# Altium footprint library Devel_Airscout_PCB_LibV3.0.PcbLib: 67 footprints (part 3 of 5)
Each footprint in its own frame and in the unit in brackets; x right, y up, seen from the top. Pads: shape width x height; smd on the part's side, far side on the other; paste and mask are expansions set on the pad; w line width, h text height; cw(c..) or ccw(c..) is an arc to the next point about the centre after c.
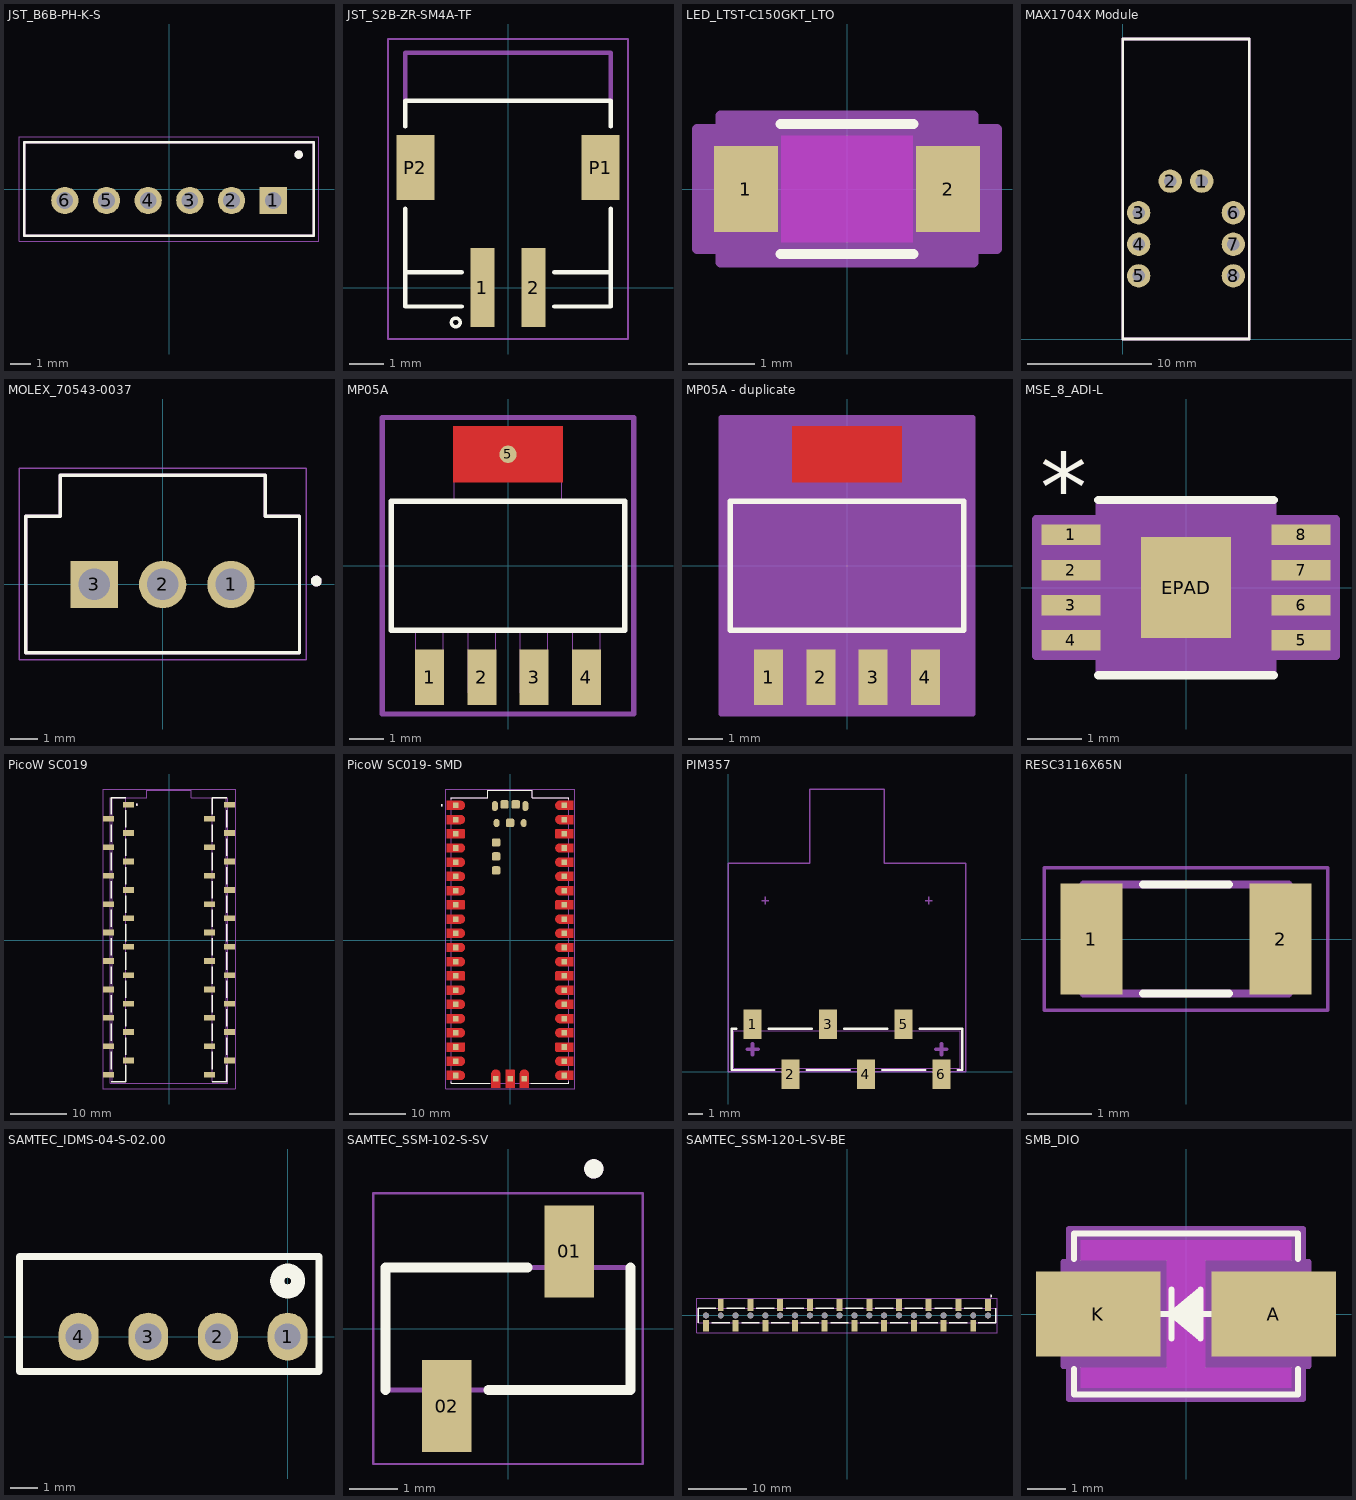
[diagram p2: the footprints below, top view; thin cyan lines are the x and y axes]

## JST_B6B-PH-K-S [mm]
pads (6):
  rect 1.308x1.308 hole 0.8: 1(5,-0.55)
  round 1.308 hole 0.8: 2(3,-0.55) 3(1,-0.55) 4(-1,-0.55) 5(-3,-0.55) 6(-5,-0.55)
Top Overlay:
  circle w0.2: c6.223,1.651 r0.1
  lines w0.127: -6.95,-2.25 -6.95,2.25 6.95,2.25 6.95,-2.25 -6.95,-2.25
Mechanical 13:
  circle w0.2: c6.223,1.651 r0.1
  lines w0.127: -6.95,-2.25 6.95,-2.25 6.95,2.25 -6.95,2.25 -6.95,-2.25
Mechanical 15:
  lines w0.05: -7.2,-2.5 7.2,-2.5 7.2,2.5 -7.2,2.5 -7.2,-2.5
3D body "step_temp.STEP": height 6, standoff -3.4, extent -6.95,-2.25 6.95,2.25

## JST_S2B-ZR-SM4A-TF [mm]
pads (4):
  rect 0.7x2.3 smd: 1(-0.75,0) 2(0.75,0)
  rect 1.1x1.9 smd: P1(2.7,3.5) P2(-2.7,3.5)
Top Overlay:
  circle w0.1: c-1.524,-1.016 r0.127
  lines w0.127: -3,2.3 -3,0.45 ; -3,4.7 -3,5.45 3,5.45 3,4.7 ; -1.35,-0.55 -3,-0.55 -3,0.45 ; -1.35,0.45 -3,0.45 ; 1.35,-0.55 3,-0.55 3,0.45 ; 1.35,0.45 3,0.45 ; 3,2.3 3,0.45
Mechanical 13:
  lines w0.127: -3,5.45 -3,6.85 3,6.85 3,5.45
Mechanical 15:
  lines w0.05: -3.5,-1.5 3.5,-1.5 3.5,7.25 -3.5,7.25 -3.5,-1.5
3D body "step_temp.STEP": height 3.7, standoff 0, extent -2.885,-0.964 3.115,5.536

## LED_LTST-C150GKT_LTO [mil]
pads (2):
  rect 38x51 smd paste+0 mask+0: 1(-60,0) 2(60,0)
Top Layer keep-out:
  region: -39,-31.5 -39,31.5 39,31.5 39,-31.5
Top Overlay:
  lines w6: -39.38,-38.5 39.38,-38.5 ; -39.38,38.5 39.38,38.5
Keep-Out Layer:
  region: -39,-31.5 -39,31.5 39,31.5 39,-31.5
Mechanical 13:
  lines w1: -65,-33.5 65,-33.5 65,33.5 -65,33.5 -65,-33.5 ; -65,-25.5 -65,25.5 -65,-25.5 ; 65,-25.5 65,25.5 65,-25.5
Mechanical 15:
  region: -75,-35.5 -89,-35.5 -89,35.5 -75,35.5 -75,43.5 75,43.5 75,35.5 89,35.5 89,-35.5 75,-35.5 75,-43.5 -75,-43.5
  lines w6: -89,-35.5 -89,35.5 -75,35.5 -75,43.5 75,43.5 75,35.5 89,35.5 89,-35.5 75,-35.5 75,-43.5 -75,-43.5 -75,-35.5 -89,-35.5
3D body "LED_LTST-C150GKT_LTO.step": height 47.09, standoff 0, extent -65,-33.5 65,33.5

## MAX1704X Module [mil] "Breakout Board"
pads (8):
  round 74 hole 40: 1(250,500) 2(150,500) 3(50,400) 4(50,300) 5(50,200) 6(350,400) 7(350,300) 8(350,200)
Top Overlay:
  lines w8: 0,0 0,950 400,950 400,0 0,0
Mechanical 15:
  lines w8: 0,0 0,950 400,950 400,0 0,0

## MOLEX_70543-0037 [mm]
height 11.81
pads (3):
  round 1.755 hole 1.17: 1(2.54,0) 2(0,0)
  rect 1.755x1.755 hole 1.17: 3(-2.54,0)
Top Overlay:
  circle w0.2: c5.708,0.127 r0.1
  lines w0.127: -5.085,-2.54 -5.085,2.54 -3.81,2.54 -3.81,4.06 3.81,4.06 3.81,2.54 5.085,2.54 5.085,-2.54 -5.085,-2.54
Mechanical 13:
  circle w0.2: c5.708,0.127 r0.1
  lines w0.127: -5.085,-2.54 -5.085,2.54 -3.81,2.54 -3.81,4.06 3.81,4.06 3.81,2.54 5.085,2.54 5.085,-2.54 -5.085,-2.54
Mechanical 15:
  lines w0.05: -5.335,-2.79 5.335,-2.79 5.335,4.31 -5.335,4.31 -5.335,-2.79
3D body "705430037--3DModel-STEP-510211.STEP": height 11.81, standoff -3.3, extent -5.08,-2.54 5.08,4.064

## MP05A [mil]
pads (5):
  rect 33x63 smd paste-31.5 mask-31.5: 1(-88.58,-126) 2(-29.53,-126) 3(29.53,-126) 4(88.58,-126)
  round 19.68 smd mask+4: 5(0,125.98)
Top Layer:
  region: 62,94.5 62,157.5 -62,157.5 -62,94.5
  region: 62,94.5 62,157.5 -62,157.5 -62,94.5
Top Overlay:
  lines w6: -132,-73 -132,73 132,73 132,-73 -132,-73
Top Solder:
  region: 66.93,80.5 66.93,171.5 -66.93,171.5 -66.93,80.5
Mechanical 13:
  lines w1: -132,-73 -132,73 132,73 132,-73 -132,-73 ; -104.08,-143.5 -73.08,-143.5 -73.08,-73 -104.08,-73 -104.08,-143.5 ; -61,73 -61,143.5 61,143.5 61,73 -61,73 ; -45.03,-143.5 -14.03,-143.5 -14.03,-73 -45.03,-73 -45.03,-143.5 ; 14.03,-143.5 45.03,-143.5 45.03,-73 14.03,-73 14.03,-143.5 ; 73.08,-143.5 104.08,-143.5 104.08,-73 73.08,-73 73.08,-143.5
Mechanical 15:
  lines w6: -142,-167.5 142,-167.5 142,167.5 -142,167.5 -142,-167.5
3D body "MP05A.step": height 71.1, standoff 0, extent -132.01,-143.5 132.01,143.5

## MP05A - duplicate [mil]
pads (4):
  rect 33x63 smd paste-31.5 mask-31.5: 1(-88.58,-126) 2(-29.53,-126) 3(29.53,-126) 4(88.58,-126)
Top Layer:
  region: 62,94.5 62,157.5 -62,157.5 -62,94.5
Top Overlay:
  lines w6: -132,-73 132,-73 132,73 -132,73 -132,-73
Top Paste:
  region: 62,94.5 62,157.5 -62,157.5 -62,94.5
Top Solder:
  region: 63,80.5 63,171.5 -63,171.5 -63,80.5
Mechanical 13:
  lines w1: -132,-73 132,-73 132,73 -132,73 -132,-73 ; -104.08,-143.5 -104.08,-73 -73.08,-73 -73.08,-143.5 -104.08,-143.5 ; -61,73 61,73 61,143.5 -61,143.5 -61,73 ; -45.03,-143.5 -45.03,-73 -14.03,-73 -14.03,-143.5 -45.03,-143.5 ; 14.03,-143.5 14.03,-73 45.03,-73 45.03,-143.5 14.03,-143.5 ; 73.08,-143.5 73.08,-73 104.08,-73 104.08,-143.5 73.08,-143.5
Mechanical 15:
  region: 142,-167.5 -142,-167.5 -142,167.5 142,167.5
  lines w6: -142,-167.5 -142,167.5 142,167.5 142,-167.5 -142,-167.5
3D body "MP05A.step": height 71.1, standoff 0, extent -132.01,-143.5 132.01,143.5

## MSE_8_ADI-L [mil]
pads (9):
  rect 43x15 smd paste+0 mask+0: 1(-84,38.39) 2(-84,12.8) 3(-84,-12.8) 4(-84,-38.39) 5(84,-38.39) 6(84,-12.8) 7(84,12.8) 8(84,38.39)
  rect 66x74 smd paste+0 mask+0: EPAD(0,0)
Top Overlay:
  lines w6: -64,-64 64,-64 ; -64,64 64,64
  text "*" at -106.5,48.39 h50
Mechanical 13:
  lines w0: -12,59 ccw(c0,59) 12,59
  lines w1: -99.5,-45.89 -59,-45.89 -59,-30.89 -99.5,-30.89 -99.5,-45.89 ; -99.5,-20.3 -59,-20.3 -59,-5.3 -99.5,-5.3 -99.5,-20.3 ; -99.5,5.3 -59,5.3 -59,20.3 -99.5,20.3 -99.5,5.3 ; -99.5,30.89 -59,30.89 -59,45.89 -99.5,45.89 -99.5,30.89 ; -59,-59 -59,59 59,59 59,-59 -59,-59 ; 59,-45.89 99.5,-45.89 99.5,-30.89 59,-30.89 59,-45.89 ; 59,-20.3 99.5,-20.3 99.5,-5.3 59,-5.3 59,-20.3 ; 59,5.3 99.5,5.3 99.5,20.3 59,20.3 59,5.3 ; 59,30.89 99.5,30.89 99.5,45.89 59,45.89 59,30.89
  text "*" at -106.3,47.24 h50
Mechanical 15:
  region: -63,-49.89 -109.5,-49.89 -109.5,49.89 -63,49.89 -63,63 63,63 63,49.89 109.5,49.89 109.5,-49.89 63,-49.89 63,-63 -63,-63
  lines w6: -109.5,-49.89 -63,-49.89 -63,-63 63,-63 63,-49.89 109.5,-49.89 109.5,49.89 63,49.89 63,63 -63,63 -63,49.89 -109.5,49.89 -109.5,-49.89
3D body "MSE_8_ADI.step": height 43.11, standoff -2.01, extent -99.49,-59.02 99.49,59.02

## PicoW SC019 [mm] "For Description look into Schematics"
pads (40):
  rect 2x1.02 smd: 1(-7.256,24.26) 2(-10.812,21.72) 3(-7.256,19.18) 4(-10.812,16.64) 5(-7.256,14.1) 6(-10.812,11.56) 7(-7.256,9.02) 8(-10.812,6.48) 9(-7.256,3.94) 10(-10.812,1.4) 11(-7.256,-1.14) 12(-10.812,-3.68) 13(-7.256,-6.22) 14(-10.812,-8.76) 15(-7.256,-11.3) 16(-10.812,-13.84) 17(-7.256,-16.38) 18(-10.812,-18.92) 19(-7.256,-21.46) 20(-10.812,-24) 21(7.256,-24) 22(10.812,-21.46) 23(7.256,-18.92) 24(10.812,-16.38) 25(7.256,-13.84) 26(10.812,-11.3) 27(7.256,-8.76) 28(10.812,-6.22) 29(7.256,-3.68) 30(10.812,-1.14) 31(7.256,1.4) 32(10.812,3.94) 33(7.256,6.48) 34(10.812,9.02) 35(7.256,11.56) 36(10.812,14.1) 37(7.256,16.64) 38(10.812,19.18) 39(7.256,21.72) 40(10.812,24.26)
Top Overlay:
  circle w0.2: c-5.734,24.26 r0.1
  lines w0.254: -10.304,-25.27 -7.764,-25.27 -7.764,-22.32 ; -10.304,-22.984 -10.304,-19.936 ; -10.304,-17.904 -10.304,-14.856 ; -10.304,-12.824 -10.304,-9.776 ; -10.304,-7.744 -10.304,-4.696 ; -10.304,-2.664 -10.304,0.384 ; -10.304,2.416 -10.304,5.464 ; -10.304,7.496 -10.304,10.544 ; -10.304,12.576 -10.304,15.624 ; -10.304,17.656 -10.304,20.704 ; -10.304,22.58 -10.304,25.53 -7.764,25.53 ; -7.764,-20.444 -7.764,-17.396 ; -7.764,-15.364 -7.764,-12.316 ; -7.764,-10.284 -7.764,-7.236 ; -7.764,-5.204 -7.764,-2.156 ; -7.764,-0.124 -7.764,2.924 ; -7.764,4.956 -7.764,8.004 ; -7.764,10.036 -7.764,13.084 ; -7.764,15.116 -7.764,18.164 ; -7.764,20.196 -7.764,23.244 ; 7.764,-25.27 10.304,-25.27 10.304,-22.32 ; 7.764,-22.984 7.764,-19.936 ; 7.764,-17.904 7.764,-14.856 ; 7.764,-12.824 7.764,-9.776 ; 7.764,-7.744 7.764,-4.696 ; 7.764,-2.664 7.764,0.384 ; 7.764,2.416 7.764,5.464 ; 7.764,7.496 7.764,10.544 ; 7.764,12.576 7.764,15.624 ; 7.764,17.656 7.764,20.704 ; 7.764,22.58 7.764,25.53 10.304,25.53 ; 10.304,-20.444 10.304,-17.396 ; 10.304,-15.364 10.304,-12.316 ; 10.304,-10.284 10.304,-7.236 ; 10.304,-5.204 10.304,-2.156 ; 10.304,-0.124 10.304,2.924 ; 10.304,4.956 10.304,8.004 ; 10.304,10.036 10.304,13.084 ; 10.304,15.116 10.304,18.164 ; 10.304,20.196 10.304,23.244
Mechanical 13:
  circle w0.2: c-5.715,24.257 r0.1
  lines w0.1: -10.27,-25.27 -10.27,25.53 ; -7.73,-25.27 -7.73,25.53 ; 7.73,-25.27 7.73,25.53 ; 10.27,-25.27 10.27,25.53
  lines w0.127: -10.5,-25.5 10.5,-25.5 10.5,25.5 4,25.5 4,26.8 -4,26.8 -4,25.5 -10.5,25.5 -10.5,-25.5
Mechanical 15:
  lines w0.05: -11.8,-26.55 11.8,-26.55 11.8,27.05 -11.8,27.05 -11.8,-26.55
3D body "m20-7862042.stp": height 7.5, standoff 0, extent -11.049,-25.273 -7.053,25.527
3D body "m20-7862042.stp": height 7.5, standoff 0, extent 7.019,-25.273 11.015,25.527

## PicoW SC019- SMD [mm] "For Description look into Schematics"
pads (53):
  rect 1x1 smd paste-1 mask+0: 1(-9.69,24.13) 2(-9.69,21.59) 3(-9.69,19.05) 4(-9.69,16.51) 5(-9.69,13.97) 6(-9.69,11.43) 7(-9.69,8.89) 8(-9.69,6.35) 9(-9.69,3.81) 10(-9.69,1.27) 11(-9.69,-1.27) 12(-9.69,-3.81) 13(-9.69,-6.35) 14(-9.69,-8.89) 15(-9.69,-11.43) 16(-9.69,-13.97) 17(-9.69,-16.51) 18(-9.69,-19.05) 19(-9.69,-21.59) 20(-9.69,-24.13) 21(9.69,-24.13) 22(9.69,-21.59) 23(9.69,-19.05) 24(9.69,-16.51) 25(9.69,-13.97) 26(9.69,-11.43) 27(9.69,-8.89) 28(9.69,-6.35) 29(9.69,-3.81) 30(9.69,-1.27) 31(9.69,1.27) 32(9.69,3.81) 33(9.69,6.35) 34(9.69,8.89) 35(9.69,11.43) 36(9.69,13.97) 37(9.69,16.51) 38(9.69,19.05) 39(9.69,21.59) 40(9.69,24.13) D1(-2.54,-24.7) D2(0,-24.7) D3(2.54,-24.7)
  oval 1.1x1.8 smd: A(-2.725,24) B(2.725,24)
  oval 1.05x1.45 smd: C(-2.425,20.97) D(2.425,20.97)
  rrect40% 1.5x1.5 smd: TP1(0,21) TP2(1,24.3) TP3(-1,24.3) TP4(-2.5,17.5) TP5(-2.5,15) TP6(-2.5,12.5)
Top Layer:
  drawing of 43 lines, arcs and shapes, not listed
Top Overlay:
  circle w0.2: c-12.19,24.13 r0.1
  lines w0.127: -10.5,-25.25 -10.5,-25.5 -3.66,-25.5 ; -10.5,25.25 -10.5,25.5 -4,25.5 -4,26.8 4,26.8 4,25.5 10.5,25.5 10.5,25.25 ; 3.66,-25.5 10.5,-25.5 10.5,-25.25
Top Paste:
  drawing of 43 lines, arcs and shapes, not listed
Top Solder:
  drawing of 43 lines, arcs and shapes, not listed
Mechanical 13:
  circle w0.2: c-12.19,24.13 r0.1
  lines w0.127: -10.5,-25.5 10.5,-25.5 10.5,25.5 4,25.5 4,26.8 -4,26.8 -4,25.5 -10.5,25.5 -10.5,-25.5
Mechanical 15:
  lines w0.05: -11.54,-26.55 11.54,-26.55 11.54,27.05 -11.54,27.05 -11.54,-26.55
3D body "step_temp.STEP": height 6.27, standoff 2.54, extent -10.5,-25.5 10.5,26.8

## PIM357 [mm] "With BME680 Sensor"
pads (6):
  rect 1.2x2 smd paste+0 mask+0.025: 1(1.65,3.176) 2(4.19,-0.176) 3(6.73,3.176) 4(9.27,-0.176) 5(11.81,3.176) 6(14.35,-0.176)
Top Overlay:
  lines w0.152: 0.568,2.872 0.253,2.872 0.253,0.103 3.108,0.103 ; 2.732,2.872 5.648,2.872 ; 5.272,0.103 8.188,0.103 ; 7.812,2.872 10.728,2.872 ; 10.352,0.103 13.268,0.103 ; 12.892,2.872 15.747,2.872 15.747,0.103 15.432,0.103
Mechanical 7:
  lines w0.254: 1.285,1.5 2.015,1.5 ; 1.65,1.135 1.65,1.865 ; 13.985,1.5 14.715,1.5 ; 14.35,1.135 14.35,1.865
Mechanical 13:
  lines w0.025: 0.38,0.23 0.38,2.745 15.62,2.745 15.62,0.23 0.38,0.23
  lines w0.1: 0,1.5 0,0 ; 2.25,11.5 2.75,11.5 ; 2.5,11.25 2.5,11.75 ; 13.25,11.5 13.75,11.5 ; 13.5,11.25 13.5,11.75 ; 16,11.5 16,14 ; 0,0 16,0 16,14 ; 0,0 0,14 5.5,14 5.5,19 10.5,19 10.5,14 16,14
3D body "NPPC061KFXC-RC--3DModel-STEP-740413.STEP": height 7.49, standoff 0, extent 0.381,-0.749 15.621,3.543

## RESC3116X65N [mm] "Caseform: 1206 Imperial"
pads (2):
  rect 0.97x1.73 smd: 1(-1.48,0) 2(1.48,0)
Top Overlay:
  lines w0.127: -0.67,-0.85 0.67,-0.85 ; -0.67,0.85 0.67,0.85
Mechanical 13:
  lines w0.127: -1.6,-0.85 1.6,-0.85 1.6,0.85 -1.6,0.85 -1.6,-0.85
Mechanical 15:
  lines w0.05: -2.215,-1.115 2.215,-1.115 2.215,1.115 -2.215,1.115 -2.215,-1.115
3D body "step_temp.STEP": height 0.65, standoff 0, extent -1.55,-0.8 1.55,0.8

## SAMTEC_IDMS-04-S-02.00 [mm]
height 5.97
pads (4):
  oval 1.45x1.75 hole 0.95: 1(0,0) 2(-2.54,0) 3(-5.08,0) 4(-7.62,0)
Top Overlay:
  lines w0.254: -9.779,-1.27 1.143,-1.27 1.143,2.921 -9.779,2.921 -9.779,-1.27
  lines w0.508: -0.381,2.027 cw(c0,2.027) 0.381,2.027 cw(c0,2.027) -0.381,2.027
Mechanical 13:
  lines w0.1: -9.79,-1.27 -9.79,2.921 1.143,2.921 1.143,-1.27 -9.79,-1.27
3D body "IDMS-04-S-02.00.stp": height 5.46, standoff -3.68, extent -9.766,-1.27 0.876,5.08

## SAMTEC_SSM-102-S-SV [mm]
pads (2):
  rect 1.02x1.905 smd: 01(1.27,1.603) 02(-1.27,-1.603)
Top Overlay:
  circle w0.2: c1.78,3.315 r0.1
  lines w0.2: -2.54,-1.27 -2.54,1.27 0.41,1.27 ; -0.41,-1.27 2.54,-1.27 2.54,1.27
Mechanical 13:
  circle w0.2: c1.78,3.315 r0.1
  lines w0.1: -2.54,-1.27 -2.54,1.27 2.54,1.27 2.54,-1.27 -2.54,-1.27
Mechanical 15:
  lines w0.05: -2.79,-2.805 -2.79,2.805 2.79,2.805 2.79,-2.805 -2.79,-2.805
3D body "SSM-102-S-SV.stp": height 7.37, standoff -0.13, extent -2.54,-2.286 2.54,2.286

## SAMTEC_SSM-120-L-SV-BE [mm]
pads (40):
  rect 1.02x2 smd: 01(24.13,1.778) 02(21.59,-1.778) 03(19.05,1.778) 04(16.51,-1.778) 05(13.97,1.778) 06(11.43,-1.778) 07(8.89,1.778) 08(6.35,-1.778) 09(3.81,1.778) 10(1.27,-1.778) 11(-1.27,1.778) 12(-3.81,-1.778) 13(-6.35,1.778) 14(-8.89,-1.778) 15(-11.43,1.778) 16(-13.97,-1.778) 17(-16.51,1.778) 18(-19.05,-1.778) 19(-21.59,1.778) 20(-24.13,-1.778)
  round 1.02 hole 1.02 unplated: ""(-24.13,0) ""(-21.59,0) ""(-19.05,0) ""(-16.51,0) ""(-13.97,0) ""(-11.43,0) ""(-8.89,0) ""(-6.35,0) ""(-3.81,0) ""(-1.27,0) ""(1.27,0) ""(3.81,0) ""(6.35,0) ""(8.89,0) ""(11.43,0) ""(13.97,0) ""(16.51,0) ""(19.05,0) ""(21.59,0) ""(24.13,0)
Top Overlay:
  circle w0.2: c24.64,3.315 r0.1
  lines w0.254: -25.4,-1.27 -25.4,1.27 -22.45,1.27 ; -23.114,-1.27 -20.066,-1.27 ; -20.574,1.27 -17.526,1.27 ; -18.034,-1.27 -14.986,-1.27 ; -15.494,1.27 -12.446,1.27 ; -12.954,-1.27 -9.906,-1.27 ; -10.414,1.27 -7.366,1.27 ; -7.874,-1.27 -4.826,-1.27 ; -5.334,1.27 -2.286,1.27 ; -2.794,-1.27 0.254,-1.27 ; -0.254,1.27 2.794,1.27 ; 2.286,-1.27 5.334,-1.27 ; 4.826,1.27 7.874,1.27 ; 7.366,-1.27 10.414,-1.27 ; 9.906,1.27 12.954,1.27 ; 12.446,-1.27 15.494,-1.27 ; 14.986,1.27 18.034,1.27 ; 17.526,-1.27 20.574,-1.27 ; 20.066,1.27 23.114,1.27 ; 22.45,-1.27 25.4,-1.27 25.4,1.27
Mechanical 13:
  circle w0.2: c24.64,3.315 r0.1
  lines w0.1: -25.4,-1.27 -25.4,1.27 25.4,1.27 25.4,-1.27 -25.4,-1.27
Mechanical 15:
  lines w0.05: -25.65,-2.921 -25.65,2.921 25.65,2.921 25.65,-2.921 -25.65,-2.921
3D body "SSM-120-L-SV-BE-K-TR.stp": height 7.52, standoff -0.1, extent -25.4,-2.413 25.4,2.159

## SMB_DIO [mm]
pads (2):
  rect 3.25x2.21 smd paste+0 mask+0: A(2.286,0) K(-2.286,0)
Top Layer keep-out:
  region: -0.508,-1.397 -0.508,1.397 0.508,1.397 0.508,-1.397
  region: -2.744,-1.919 -2.744,-1.397 2.744,-1.397 2.744,-1.919
  region: -2.744,1.397 -2.744,1.919 2.744,1.919 2.744,1.397
Top Overlay:
  lines w0.152: -2.922,-1.438 -2.922,-2.097 2.922,-2.097 2.922,-1.438 ; -2.922,1.438 -2.922,2.097 2.922,2.097 2.922,1.438 ; -0.636,0 0.634,0 ; -0.382,-0.635 -0.382,0.635 ; 0.38,-0.508 -0.382,0 ; 0.38,-0.381 -0.382,0 ; 0.38,-0.254 -0.382,0 ; 0.38,-0.127 -0.382,0 ; 0.38,0.127 -0.382,0 ; 0.38,0.254 -0.382,0 ; 0.38,0.381 -0.382,0 ; 0.38,0.508 -0.382,0 ; -0.382,0 0.38,-0.635 0.38,0.635 -0.382,0
Mechanical 13:
  lines w0.025: -0.636,0 0.634,0 ; -0.382,-0.635 -0.382,0.635 ; 0.38,-0.508 -0.382,0 ; 0.38,-0.381 -0.382,0 ; 0.38,-0.254 -0.382,0 ; 0.38,-0.127 -0.382,0 ; 0.38,0.127 -0.382,0 ; 0.38,0.254 -0.382,0 ; 0.38,0.381 -0.382,0 ; 0.38,0.508 -0.382,0 ; -0.382,0 0.38,-0.635 0.38,0.635 -0.382,0 ; -2.795,-1.97 2.795,-1.97 2.795,1.97 -2.795,1.97 -2.795,-1.97
Mechanical 15:
  region: -3.049,-1.359 -3.201,-1.359 -3.201,1.359 -3.049,1.359 -3.049,2.224 3.049,2.224 3.049,1.359 3.201,1.359 3.201,-1.359 3.049,-1.359 3.049,-2.224 -3.049,-2.224
  lines w0.152: -3.201,-1.359 -3.201,1.359 -3.049,1.359 -3.049,2.224 3.049,2.224 3.049,1.359 3.201,1.359 3.201,-1.359 3.049,-1.359 3.049,-2.224 -3.049,-2.224 -3.049,-1.359 -3.201,-1.359
3D body "SMB_DIO.step": height 2.45, standoff 0, extent -2.795,-1.97 2.795,1.97